# Altium footprint library PcbLib1.PcbLib: 5 footprints
Each footprint in its own frame and in the unit in brackets; x right, y up, seen from the top. Pads: shape width x height; smd on the part's side, far side on the other; paste and mask are expansions set on the pad; w line width, h text height; cw(c..) or ccw(c..) is an arc to the next point about the centre after c.
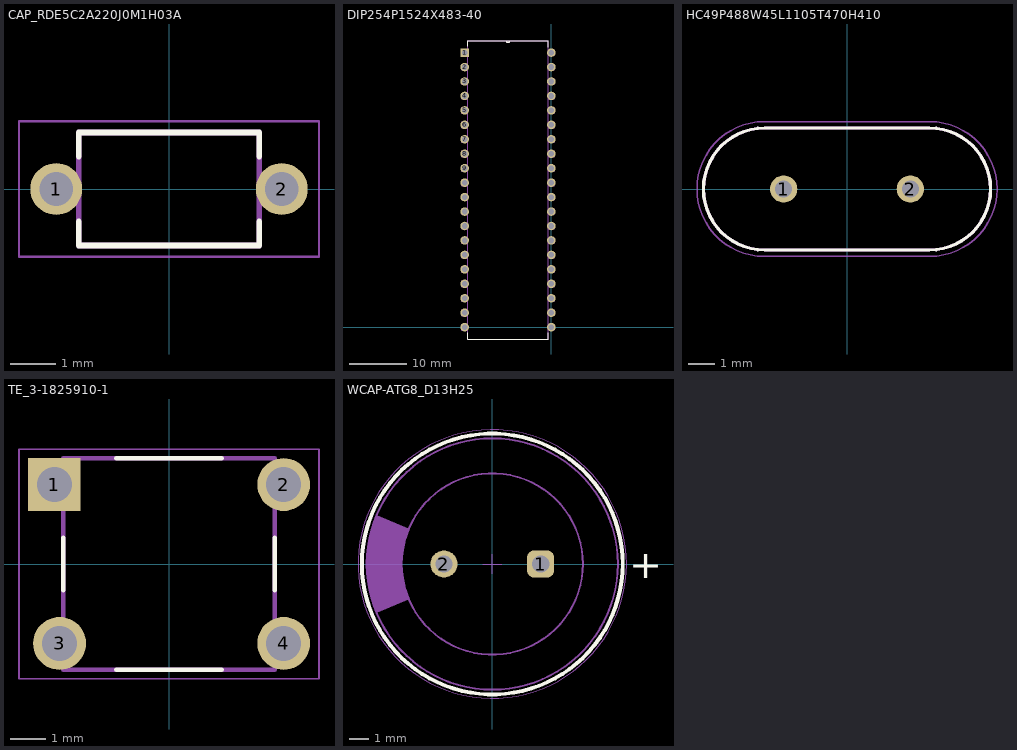
[diagram p0: the footprints below, top view; thin cyan lines are the x and y axes]

## CAP_RDE5C2A220J0M1H03A [mm]
pads (2):
  round 1.15 hole 0.75: 1(-2.5,0) 2(2.5,0)
Top Overlay:
  lines w0.127: -2,-0.72 -2,-1.25 2,-1.25 2,-0.72 ; -2,0.72 -2,1.25 2,1.25 2,0.72
Mechanical 13:
  lines w0.127: -2,-1.25 -2,1.25 2,1.25 2,-1.25 -2,-1.25
Mechanical 15:
  lines w0.05: -3.325,-1.5 -3.325,1.5 3.325,1.5 3.325,-1.5 -3.325,-1.5
3D body "RDE5C2A220J0M1H03A.STEP": height 6, standoff -22.5, extent -2.75,-1.27 2.75,1.23

## DIP254P1524X483-40 [mil]
pads (40):
  rect 59x59 hole 39: 1(-600,1900)
  round 59 hole 39: 2(-600,1800) 3(-600,1700) 4(-600,1600) 5(-600,1500) 6(-600,1400) 7(-600,1300) 8(-600,1200) 9(-600,1100) 10(-600,1000) 11(-600,900) 12(-600,800) 13(-600,700) 14(-600,600) 15(-600,500) 16(-600,400) 17(-600,300) 18(-600,200) 19(-600,100) 20(-600,0) 21(0,0) 22(0,100) 23(0,200) 24(0,300) 25(0,400) 26(0,500) 27(0,600) 28(0,700) 29(0,800) 30(0,900) 31(0,1000) 32(0,1100) 33(0,1200) 34(0,1300) 35(0,1400) 36(0,1500) 37(0,1600) 38(0,1700) 39(0,1800) 40(0,1900)
Top Overlay:
  lines w0: -312,1982 ccw(c-300,1982) -288,1982
  lines w6: -580,-38 -580,-82 -20,-82 -20,-38 ; -580,1943 -580,1982 -312,1982 -288,1982 -20,1982 -20,1938
Mechanical 13:
  drawing of 167 lines, arcs and shapes, not listed
3D body "PIC - 16F877A.STEP": height 160.5, standoff -144.5, extent -625,-78 25,1980

## HC49P488W45L1105T470H410 [mm]
pads (2):
  round 1.05 hole 0.65: 1(-2.44,0) 2(2.44,0)
Top Overlay:
  lines w0.127: -3.18,-2.35 cw(c-3.18,0) -3.18,2.35 3.18,2.35 cw(c3.18,0) 3.18,-2.35 -3.18,-2.35
Mechanical 13:
  lines w0.127: -3.18,-2.35 cw(c-3.18,0) -3.18,2.35 3.18,2.35 cw(c3.18,0) 3.18,-2.35 -3.18,-2.35
Mechanical 15:
  lines w0.05: -3.18,-2.6 cw(c-3.18,0) -3.18,2.6 3.18,2.6 cw(c3.18,0) 3.18,-2.6 -3.18,-2.6
3D body "16MHz ±30ppm Crystal 30pF 40 Ohms HC-49US.STEP": height 4.11, standoff -12.69, extent -5.525,-2.413 5.525,2.287

## TE_3-1825910-1 [mm]
pads (4):
  rect 1.498x1.498 hole 0.99: 1(-3.25,2.25)
  round 1.498 hole 0.99: 2(3.25,2.25) 3(-3.1,-2.25) 4(3.25,-2.25)
Top Overlay:
  lines w0.127: -3,-0.75 -3,0.75 ; -1.5,-3 1.5,-3 ; -1.5,3 1.5,3 ; 3,-0.75 3,0.75
Mechanical 13:
  lines w0.127: -3,-3 -3,3 3,3 3,-3 -3,-3
Mechanical 15:
  lines w0.05: -4.25,-3.25 4.25,-3.25 4.25,3.25 -4.25,3.25 -4.25,-3.25
3D body "Switch Push Button.STEP": height 17.01, standoff -3.51, extent -3.773,-2.995 4.025,2.995

## WCAP-ATG8_D13H25 [mm] "Aluminum Electrolytic Capacitors, 13x25mm"
height 25
pads (2):
  rrect50% 1.4x1.4 hole 0.9: 1(2.5,0)
  round 1.4 hole 0.9: 2(-2.5,0)
Top Overlay:
  circle w0.2: c0,0 r6.75
  text "+" at 7.075,-0.737 h1.5
Mechanical 11:
  circle w0.1: c0,0 r4.69
  circle w0.1: c0,0 r6.5
  region: -5.99,-2.525 -6.116,-2.226 -6.307,-1.606 -6.435,-0.97 -6.5,-0.324 -6.5,0.324 -6.435,0.97 -6.307,1.606 -6.116,2.226 -5.99,2.525 -4.32,1.826 -4.321,1.824 -4.406,1.606 -4.545,1.159 -4.637,0.7 -4.684,0.234 -4.684,-0.234 -4.637,-0.7 -4.545,-1.159 -4.406,-1.606 -4.321,-1.824 -4.32,-1.826
  text ".Designator" at -2.5,-0.75 h1.5
Mechanical 15:
  circle w0.05: c0,0 r6.95
  lines w0.05: -0.5,0 0.5,0 ; 0,-0.5 0,0.5
3D body "13x25x5x0.6.stp": height 25.31, standoff -19.91, extent -6.49,-6.5 6.5,6.5